# Altium schematic symbol library NCP115.Schlib: 1 symbol
Pins are listed as number, name and electrical type; pins without a type are passive.

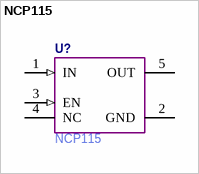
[diagram p0: symbol NCP115]

## NCP115
designator U?
Manufacturer Part Number: NCP115
pins: 1 IN (in), 2 GND (power), 3 EN (in), 4 NC, 5 OUT (power)